# Altium footprint library SuperSOT-6.PcbLib: 1 footprints
Each footprint in its own frame and in the unit in brackets; x right, y up, seen from the top. Pads: shape width x height; smd on the part's side, far side on the other; paste and mask are expansions set on the pad; w line width, h text height; cw(c..) or ccw(c..) is an arc to the next point about the centre after c.
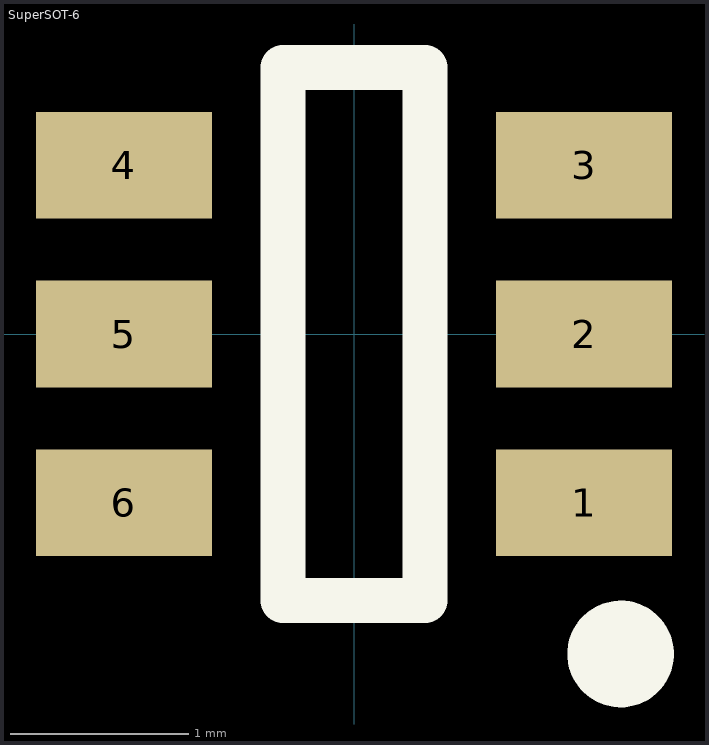
[diagram p0: the footprint, top view; thin cyan lines are the x and y axes]

## SuperSOT-6 [mm] "= SSOT-6"
pads (6):
  rect 0.99x0.6 smd: 1(1.295,-0.95) 2(1.295,0) 3(1.295,0.95) 4(-1.295,0.95) 5(-1.295,0) 6(-1.295,-0.95)
Top Overlay:
  circle w0.3: c1.5,-1.8 r0.15
  lines w0.254: -0.4,-1.5 -0.4,1.5 0.4,1.5 0.4,-1.5 -0.4,-1.5